# Altium footprint library PCB_2020-04-17_STM32F103RCT6.PcbLib: 29 footprints (part 1 of 2)
Each footprint in its own frame and in the unit in brackets; x right, y up, seen from the top. Pads: shape width x height; smd on the part's side, far side on the other; paste and mask are expansions set on the pad; w line width, h text height; cw(c..) or ccw(c..) is an arc to the next point about the centre after c.
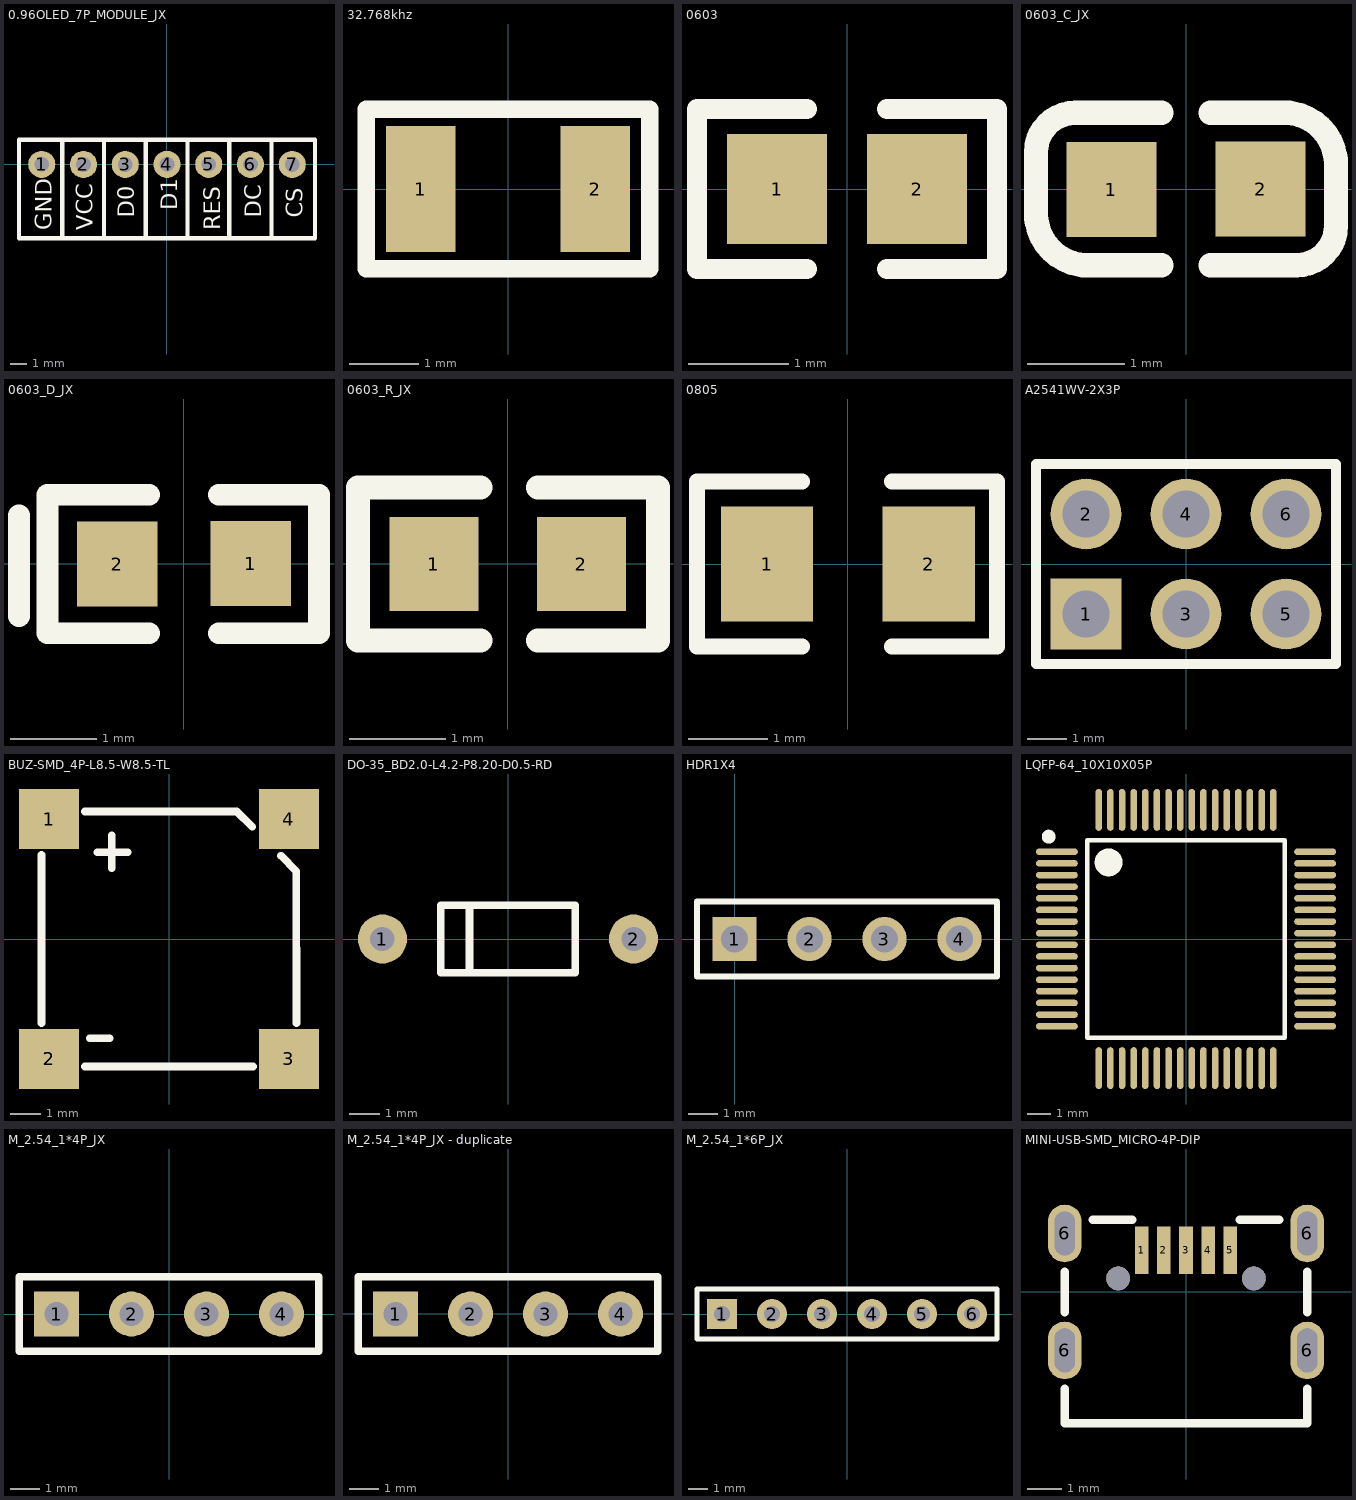
[diagram p0: the footprints below, top view; thin cyan lines are the x and y axes]

## 0.96OLED_7P_MODULE_JX [mm]
pads (7):
  round 1.65 hole 0.89: 1(-7.617,-0.003) 2(-5.077,-0.008) 3(-2.537,-0.008) 4(0.003,0) 5(2.54,-0.005) 6(5.08,-0.005) 7(7.62,-0.008)
Top Overlay:
  lines w0.254: -6.37,-4.5 -6.37,1.5 ; -3.83,-4.5 -3.83,1.5 ; -1.29,-4.5 -1.29,1.5 ; 1.25,-4.5 1.25,1.5 ; 3.79,-4.5 3.79,1.5 ; 6.351,-4.5 6.351,1.5 ; -9,-4.5 9,-4.5 9,1.5 -9,1.5 -9,-4.5
  text "GND" at -7.001,-4 h1
  text "VCC" at -4.499,-4 h1
  text "D0" at -1.999,-3.254 h1
  text "DC" at 5.75,-3.254 h1
  text "D1" at 0.627,-2.799 h1
  text "RES" at 3.251,-4 h1
  text "CS" at 8.25,-3.254 h1

## 32.768khz [mm]
pads (2):
  rect 1x1.8 smd: 1(-1.25,0) 2(1.25,0)
Top Overlay:
  lines w0.254: -2.032,-1.143 -2.032,1.143 2.032,1.143 2.032,-1.143 -2.032,-1.143

## 0603 [mm]
pads (2):
  rect 1x1.1 smd: 1(-0.7,0) 2(0.7,0)
Top Overlay:
  lines w0.2: -0.4,-0.8 -1.5,-0.8 -1.5,-0.2 -1.5,0.8 -0.4,0.8 ; 0.4,-0.8 1.5,-0.8 1.5,0.8 0.4,0.8

## 0603_C_JX [mm]
pads (2):
  rect 0.93x0.98 smd: 1(-0.77,-0.005) 2(0.772,0)
Top Overlay:
  lines w0.25: -1.549,-0.305 -1.549,0.381 cw(c-1.143,0.381) -1.143,0.787 -0.279,0.787 -0.254,0.787 ; -1.549,-0.254 ccw(c-1.016,-0.254) -1.016,-0.787 ; -1.067,-0.787 -0.254,-0.787 ; 0.254,-0.787 0.279,-0.787 1.143,-0.787 ccw(c1.143,-0.381) 1.549,-0.381 1.549,0.305 ; 0.254,0.787 1.067,0.787 ; 1.016,0.787 cw(c1.016,0.254) 1.549,0.254

## 0603_D_JX [mm]
pads (2):
  rect 0.93x0.98 smd: 1(0.772,0) 2(-0.77,-0.005)
Top Overlay:
  lines w0.25: -1.905,-0.61 -1.905,0.559 ; -0.4,-0.805 -0.452,-0.805 -1.575,-0.805 -1.575,0.795 -0.4,0.795 ; 0.4,-0.805 1.559,-0.805 1.559,0.795 0.4,0.795

## 0603_R_JX [mm]
pads (2):
  rect 0.93x0.98 smd: 1(-0.77,-0.003) 2(0.772,-0.003)
Top Overlay:
  lines w0.25: -0.284,-0.803 -0.3,-0.803 -1.562,-0.803 -1.562,0.797 -0.284,0.797 ; 0.318,-0.803 1.572,-0.803 1.572,0.797 0.318,0.797

## 0805 [mm]
pads (2):
  rect 1.16x1.45 smd: 1(-1.016,0) 2(1.016,0)
Top Overlay:
  lines w0.2: -0.577,-1.035 -1.897,-1.035 -1.897,1.035 -0.577,1.035 ; 0.555,-1.035 1.875,-1.035 1.875,1.035 0.555,1.035

## A2541WV-2X3P [mm]
pads (6):
  rect 1.8x1.8 hole 1.2: 1(-2.54,-1.27)
  round 1.8 hole 1.2: 2(-2.54,1.27) 3(0,-1.27) 4(0,1.27) 5(2.54,-1.27) 6(2.54,1.27)
Top Overlay:
  lines w0.254: -3.81,-2.54 -3.81,-2.286 -3.81,2.54 3.81,2.54 3.81,-2.54 -3.556,-2.54 -3.81,-2.54

## BUZ-SMD_4P-L8.5-W8.5-TL [mm]
pads (4):
  rect 2x2 smd: 1(-4,4) 2(-4,-4) 3(4,-4) 4(4,4)
Top Overlay:
  lines w0.254: -4.25,-2.8 -4.25,2.8 ; -2.8,-4.25 2.8,-4.25 ; -2.8,4.25 2.261,4.25 2.77,3.739 ; -2.642,-3.302 -1.981,-3.302 ; -2.388,2.896 -1.372,2.896 ; -1.905,2.362 -1.905,3.454 ; 3.735,2.77 4.242,2.261 4.25,-2.8

## DO-35_BD2.0-L4.2-P8.20-D0.5-RD [mm]
pads (2):
  round 1.6 hole 0.8: 1(-4.1,0) 2(4.1,0)
Top Overlay:
  lines w0.254: -1.261,-1.1 -1.261,1.1 ; -2.2,-1.1 -2.2,1.1 2.2,1.1 2.2,-1.1 -2.2,-1.1

## HDR1X4 [mm] "Connector; Header; 4 Position"
pads (4):
  rect 1.5x1.5 hole 0.9: 1(0,0)
  round 1.5 hole 0.9: 2(2.54,0) 3(5.08,0) 4(7.62,0)
Top Overlay:
  lines w0.2: -1.27,-1.27 -1.27,1.27 8.89,1.27 8.89,-1.27 -1.27,-1.27

## LQFP-64_10X10X05P [mm]
pads (64):
  oval 1.796x0.28 smd: 1(-5.55,3.75) 2(-5.55,3.25) 3(-5.55,2.75) 4(-5.55,2.25) 5(-5.55,1.75) 6(-5.55,1.25) 7(-5.55,0.75) 8(-5.55,0.25) 9(-5.55,-0.25) 10(-5.55,-0.75) 11(-5.55,-1.25) 12(-5.55,-1.75) 13(-5.55,-2.25) 14(-5.55,-2.75) 15(-5.55,-3.25) 16(-5.55,-3.75) 33(5.55,-3.75) 34(5.55,-3.25) 35(5.55,-2.75) 36(5.55,-2.25) 37(5.55,-1.75) 38(5.55,-1.25) 39(5.55,-0.75) 40(5.55,-0.25) 41(5.55,0.25) 42(5.55,0.75) 43(5.55,1.25) 44(5.55,1.75) 45(5.55,2.25) 46(5.55,2.75) 47(5.55,3.25) 48(5.55,3.75)
  oval 0.28x1.796 smd: 17(-3.75,-5.55) 18(-3.25,-5.55) 19(-2.75,-5.55) 20(-2.25,-5.55) 21(-1.75,-5.55) 22(-1.25,-5.55) 23(-0.75,-5.55) 24(-0.25,-5.55) 25(0.25,-5.55) 26(0.75,-5.55) 27(1.25,-5.55) 28(1.75,-5.55) 29(2.25,-5.55) 30(2.75,-5.55) 31(3.25,-5.55) 32(3.75,-5.55) 49(3.75,5.55) 50(3.25,5.55) 51(2.75,5.55) 52(2.25,5.55) 53(1.75,5.55) 54(1.25,5.55) 55(0.75,5.55) 56(0.25,5.55) 57(-0.25,5.55) 58(-0.75,5.55) 59(-1.25,5.55) 60(-1.75,5.55) 61(-2.25,5.55) 62(-2.75,5.55) 63(-3.25,5.55) 64(-3.75,5.55)
Top Overlay:
  lines w0.2: -4.25,-4.25 4.25,-4.25 4.25,4.25 -4.25,4.25 -4.25,-4.25
  lines w0.3: -5.751,4.397 cw(c-5.901,4.398) -5.751,4.399
  lines w0.6: -3.025,3.294 cw(c-3.325,3.297) -3.025,3.299

## M_2.54_1*4P_JX [mm]
pads (4):
  rect 1.52x1.52 hole 0.81: 1(-3.81,0)
  round 1.52 hole 0.81: 2(-1.27,0) 3(1.27,0) 4(3.81,0)
Top Overlay:
  lines w0.254: -5.08,-1.27 5.08,-1.27 5.08,1.27 -5.08,1.27 -5.08,-1.27

## M_2.54_1*4P_JX - duplicate [mm]
pads (4):
  rect 1.52x1.52 hole 0.81: 1(-3.81,0)
  round 1.52 hole 0.81: 2(-1.27,0) 3(1.27,0) 4(3.81,0)
Top Overlay:
  lines w0.254: -5.08,-1.27 5.08,-1.27 5.08,1.27 -5.08,1.27 -5.08,-1.27

## M_2.54_1*6P_JX [mm]
pads (6):
  rect 1.52x1.52 hole 0.81: 1(-6.35,0)
  round 1.52 hole 0.81: 2(-3.81,0) 3(-1.27,0) 4(1.27,0) 5(3.81,0) 6(6.35,0)
Top Overlay:
  lines w0.254: -7.62,-1.27 -7.62,1.27 -5.08,1.27 7.62,1.27 7.62,-1.27 -7.62,-1.27

## MINI-USB-SMD_MICRO-4P-DIP [mm]
pads (11):
  rect 0.4x1.4 smd: 1(-1.3,1.225) 2(-0.65,1.225) 3(0,1.225) 4(0.65,1.225) 5(1.3,1.225)
  oval 1x1.699 hole 0.6 slot 1.3 at 90 deg: 6(-3.575,-1.725) 6(-3.575,1.725) 6(3.575,-1.725) 6(3.575,1.725)
  round 0.7 hole 0.7 unplated: ""(-2,0.4) ""(2,0.4)
Top Overlay:
  lines w0.254: -3.575,-2.856 -3.575,-3.875 3.575,-3.875 3.575,-2.856 ; -3.575,-0.594 -3.575,0.594 ; -2.751,2.135 -1.592,2.135 ; 1.592,2.135 2.751,2.135 ; 3.575,-0.594 3.575,0.594